# EAGLE library part IC-TR-ARRAY-8P-NEGIN-SINK (library mylib)
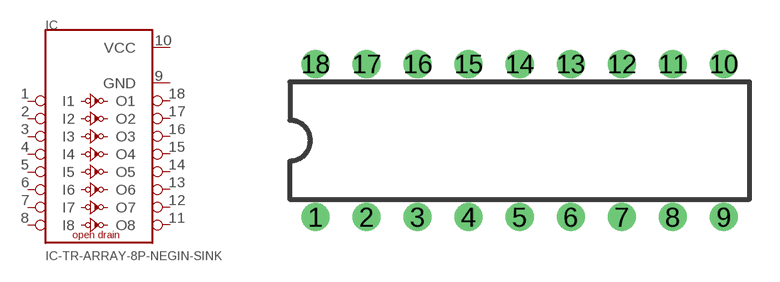
[diagram p47: symbol with the pads of IC-SOCKET-DIL-18; footprint IC-SOCKET-DIL-18]

Designator prefix IC

## IC-TR-ARRAY-8P-NEGIN-SINK-DIP  [IC-SOCKET-DIL-18]
1  I1
2  I2
3  I3
4  I4
5  I5
6  I6
7  I7
8  I8
9  GND  pwr
10  VCC  pwr
11  O8
12  O7
13  O6
14  O5
15  O4
16  O3
17  O2
18  O1

## Footprint IC-SOCKET-DIL-18 (pad centres in mm)
Dual In Line Package
drill 0.889: 1 -10.16,-3.81; 2 -7.62,-3.81; 3 -5.08,-3.81; 4 -2.54,-3.81; 5 0,-3.81; 6 2.54,-3.81; 7 5.08,-3.81; 8 7.62,-3.81; 9 10.16,-3.81; 10 10.16,3.81; 11 7.62,3.81; 12 5.08,3.81; 13 2.54,3.81; 14 0,3.81; 15 -2.54,3.81; 16 -5.08,3.81; 17 -7.62,3.81; 18 -10.16,3.81